# Altium schematic symbol library Integrated_Curcuits.SCHLIB: 65 symbols (part 3 of 3)
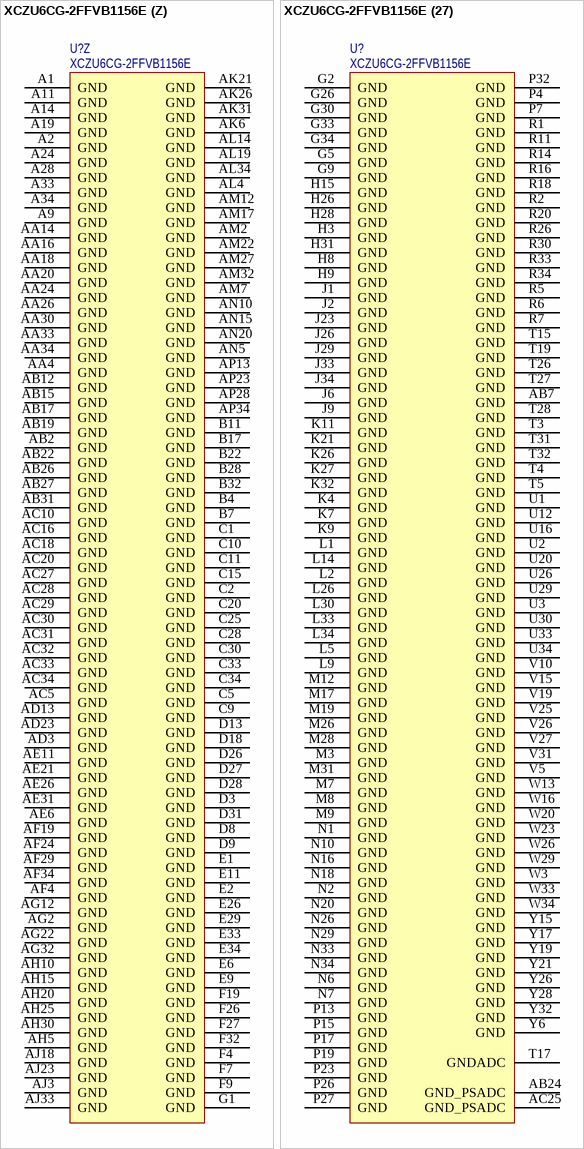
[diagram p14: symbol XCZU6CG-2FFVB1156E]

## XCZU6CG-2FFVB1156E
designator U?
Manufacturer: XILINX; Manufacturer Part Number: XCZU6CG-2FFVB1156E; Supplier 1: AVNET; Supplier Part Number 1: XCZU6CG-2FFVB1156E; ComponentLink1Description: Supplier Info; ComponentLink1URL: https://www.avnet.com/shop/emea/products/xilinx/xczu6cg-2ffvb1156e-3074457345632354611/; ComponentLink2Description: Datasheet; Value: XCZU6CG-2FFVB1156E
footprint XCZU6CG-2FFVB1156E (BGA, 1156-Leads, Body 35.00x35.00mmx3.42mm, Pitch 1.00mm)
part A pins: AD14 POR_OVERRIDE (in), AD15 PUDC_B (in), R21 PS_ERROR_STATUS (io), R22 PS_MODE1 (in), R23 PS_MODE3 (in), R24 PS_JTAG_TMS (in), R25 PS_JTAG_TCK (in), T21 PS_ERROR_OUT (out), T22 PS_MODE0 (in), T23 PS_MODE2 (in), T25 PS_JTAG_TDO (out), U17 VREFN (in), U18 VP (in), U21 PS_PROG_B (in), U23 PS_SRST_B (in), U24 PS_REF_CLK (in), U25 PS_JTAG_TDI (in), V17 VN (in), V18 VREFP (in), V21 PS_PADI (in), V22 PS_PADO (out), V23 PS_POR_B (in), V24 PS_INIT_B (io), W17 DXN, W18 DXP, W21 PS_DONE (out)
part B pins: AF20 PS_DDR_PARITY (io), AF21 PS_DDR_RAM_RST_N (out), AF22 PS_DDR_ALERT_N (out), AF23 PS_DDR_ZQ (in), AF25 PS_DDR_A17 (out), AG25 PS_DDR_ACT_N (out), AG26 PS_DDR_BA1 (out), AH26 PS_DDR_BA0 (out), AH27 PS_DDR_BG1 (out), AJ25 PS_DDR_A12 (out), AJ26 PS_DDR_ODT1 (out), AJ27 PS_DDR_CKE1 (out), AK24 PS_DDR_A15 (out), AK25 PS_DDR_A14 (out), AK27 PS_DDR_A11 (out), AK28 PS_DDR_BG0 (out), AL25 PS_DDR_A13 (out), AL26 PS_DDR_CK1 (out), AL27 PS_DDR_CK_N1 (out), AL28 PS_DDR_A10 (out), AL30 PS_DDR_CS_N1 (out), AM24 PS_DDR_A16 (out), AM25 PS_DDR_A9 (out), AM26 PS_DDR_A8 (out), AM28 PS_DDR_A7 (out), AM29 PS_DDR_A6 (out), AM30 PS_DDR_ODT0 (out), AN24 PS_DDR_A5 (out), AN26 PS_DDR_CK0 (out), AN27 PS_DDR_CK_N0 (out), AN28 PS_DDR_CS_N0 (out), AN29 PS_DDR_CKE0 (out), AP25 PS_DDR_A4 (out), AP26 PS_DDR_A2 (out), AP27 PS_DDR_A3 (out), AP29 PS_DDR_A0 (out), AP30 PS_DDR_A1 (out)
part C pins: AG18 PS_DDR_DQ23 (io), AG19 PS_DDR_DQ22 (io), AG20 PS_DDR_DQ20 (io), AG21 PS_DDR_DQ24 (io), AG23 PS_DDR_DQ27 (io), AG24 PS_DDR_DQ26 (io), AH18 PS_DDR_DQ21 (io), AH19 PS_DDR_DQS_P2 (io), AH21 PS_DDR_DQ25 (io), AH22 PS_DDR_DQS_P3 (io), AH23 PS_DDR_DQS_N3 (io), AH24 PS_DDR_DM3 (io), AJ19 PS_DDR_DQS_N2 (io), AJ20 PS_DDR_DQ18 (io), AJ21 PS_DDR_DQ29 (io), AJ22 PS_DDR_DQ30 (io), AK18 PS_DDR_DQ19 (io), AK19 PS_DDR_DM2 (io), AK20 PS_DDR_DQ17 (io), AK22 PS_DDR_DQ28 (io), AK23 PS_DDR_DQ31 (io), AL18 PS_DDR_DQ7 (io), AL20 PS_DDR_DQ16 (io), AL21 PS_DDR_DQ12 (io), AL22 PS_DDR_DQ13 (io), AL23 PS_DDR_DQ15 (io), AM18 PS_DDR_DQ6 (io), AM19 PS_DDR_DQ5 (io), AM20 PS_DDR_DQ4 (io), AM21 PS_DDR_DM1 (io), AM23 PS_DDR_DQ14 (io), AN17 PS_DDR_DM0 (io), AN18 PS_DDR_DQS_P0 (io), AN19 PS_DDR_DQS_N0 (io), AN21 PS_DDR_DQS_P1 (io), AN22 PS_DDR_DQS_N1 (io), AN23 PS_DDR_DQ11 (io), AP17 PS_DDR_DQ3 (io), AP18 PS_DDR_DQ1 (io), AP19 PS_DDR_DQ2 (io), AP20 PS_DDR_DQ0 (io), AP21 PS_DDR_DQ9 (io), AP22 PS_DDR_DQ8 (io), AP24 PS_DDR_DQ10 (io)
part D pins: AD27 PS_DDR_DQ45 (io), AD28 PS_DDR_DQ44 (io), AD29 PS_DDR_DQ46 (io), AD30 PS_DDR_DQ47 (io), AD31 PS_DDR_DQ60 (io), AD32 PS_DDR_DQ61 (io), AD33 PS_DDR_DQ63 (io), AD34 PS_DDR_DQ62 (io), AE27 PS_DDR_DQ40 (io), AE28 PS_DDR_DQS_P5 (io), AE29 PS_DDR_DQS_N5 (io), AE30 PS_DDR_DM5 (io), AE32 PS_DDR_DQS_P7 (io), AE33 PS_DDR_DQS_N7 (io), AE34 PS_DDR_DM7 (io), AF28 PS_DDR_DQ41 (io), AF30 PS_DDR_DQ42 (io), AF31 PS_DDR_DQ43 (io), AF32 PS_DDR_DQ58 (io), AF33 PS_DDR_DQ59 (io), AG28 PS_DDR_DQ35 (io), AG29 PS_DDR_DQ34 (io), AG30 PS_DDR_DQ33 (io), AG31 PS_DDR_DQ32 (io), AG33 PS_DDR_DQ56 (io), AG34 PS_DDR_DQ57 (io), AH28 PS_DDR_DQS_P4 (io), AH29 PS_DDR_DQS_N4 (io), AH31 PS_DDR_DM4 (io), AH32 PS_DDR_DQ51 (io), AH33 PS_DDR_DQ48 (io), AH34 PS_DDR_DQ50 (io), AJ29 PS_DDR_DQ39 (io), AJ30 PS_DDR_DQ36 (io), AJ31 PS_DDR_DM6 (io), AJ32 PS_DDR_DQS_P6 (io), AJ34 PS_DDR_DQ49 (io), AK29 PS_DDR_DQ37 (io), AK30 PS_DDR_DQ38 (io), AK32 PS_DDR_DQS_N6 (io), AK33 PS_DDR_DQ53 (io), AK34 PS_DDR_DQ52 (io), AL31 PS_DDR_DQ55 (io), AL32 PS_DDR_DQ54 (io)
part E pins: AL33 PS_DDR_DQ71 (io), AM31 PS_DDR_DQ68 (io), AM33 PS_DDR_DQ69 (io), AM34 PS_DDR_DQ70 (io), AN31 PS_DDR_DQ64 (io), AN32 PS_DDR_DQS_P8 (io), AN33 PS_DDR_DQS_N8 (io), AN34 PS_DDR_DM8 (io), AP31 PS_DDR_DQ65 (io), AP32 PS_DDR_DQ66 (io), AP33 PS_DDR_DQ67 (io)
part F pins: AD16 PS_MIO2 (io), AD17 PS_MIO7 (io), AD18 PS_MIO20 (io), AD19 PS_MIO23 (io), AD20 PS_MIO22 (io), AE17 PS_MIO8 (io), AE18 PS_MIO18 (io), AE19 PS_MIO25 (io), AE20 PS_MIO24 (io), AF16 PS_MIO0 (io), AF17 PS_MIO11 (io), AF18 PS_MIO21 (io), AG16 PS_MIO3 (io), AH16 PS_MIO4 (io), AH17 PS_MIO10 (io), AJ16 PS_MIO1 (io), AJ17 PS_MIO12 (io), AK17 PS_MIO13 (io), AL15 PS_MIO6 (io), AL16 PS_MIO14 (io), AL17 PS_MIO19 (io), AM15 PS_MIO5 (io), AM16 PS_MIO16 (io), AN16 PS_MIO15 (io), AP15 PS_MIO9 (io), AP16 PS_MIO17 (io)
part G pins: H22 PS_MIO32 (io), H23 PS_MIO33 (io), J22 PS_MIO31 (io), J24 PS_MIO41 (io), J25 PS_MIO46 (io), K22 PS_MIO29 (io), K23 PS_MIO36 (io), K24 PS_MIO43 (io), K25 PS_MIO49 (io), L21 PS_MIO30 (io), L22 PS_MIO34 (io), L23 PS_MIO38 (io), L25 PS_MIO47 (io), M21 PS_MIO27 (io), M23 PS_MIO40 (io), M24 PS_MIO42 (io), M25 PS_MIO48 (io), N21 PS_MIO28 (io), N22 PS_MIO37 (io), N23 PS_MIO39 (io), N24 PS_MIO44 (io), N25 PS_MIO51 (io), P21 PS_MIO26 (io), P22 PS_MIO35 (io), P24 PS_MIO45 (io), P25 PS_MIO50 (io)
part H pins: A23 PS_MIO57 (io), A25 PS_MIO64 (io), A26 PS_MIO65 (io), A27 PS_MIO66 (io), B23 PS_MIO55 (io), B24 PS_MIO59 (io), B25 PS_MIO67 (io), B26 PS_MIO68 (io), B27 PS_MIO69 (io), C23 PS_MIO56 (io), C24 PS_MIO61 (io), C26 PS_MIO70 (io), C27 PS_MIO71 (io), D24 PS_MIO63 (io), D25 PS_MIO75 (io), E23 PS_MIO53 (io), E24 PS_MIO60 (io), E25 PS_MIO72 (io), F22 PS_MIO52 (io), F23 PS_MIO54 (io), F25 PS_MIO77 (io), G23 PS_MIO58 (io), G24 PS_MIO62 (io), G25 PS_MIO74 (io), H24 PS_MIO73 (io), H25 PS_MIO76 (io)
part I pins: AE13 IO_L9P_AD3P_44 (io), AE14 IO_L12N_AD0N_44 (io), AE15 IO_L12P_AD0P_44 (io), AF13 IO_L9N_AD3N_44 (io), AF15 IO_L11P_AD1P_44 (io), AG13 IO_L10N_AD2N_44 (io), AG14 IO_L10P_AD2P_44 (io), AG15 IO_L11N_AD1N_44 (io), AH13 IO_L7N_HDGC_AD5N_44 (io), AH14 IO_L7P_HDGC_AD5P_44 (io), AJ14 IO_L8N_HDGC_AD4N_44 (io), AJ15 IO_L8P_HDGC_AD4P_44 (io), AK13 IO_L6P_HDGC_AD6P_44 (io), AK14 IO_L5N_HDGC_AD7N_44 (io), AK15 IO_L5P_HDGC_AD7P_44 (io), AL12 IO_L6N_HDGC_AD6N_44 (io), AL13 IO_L4P_AD8P_44 (io), AM13 IO_L4N_AD8N_44 (io), AM14 IO_L2P_AD10P_44 (io), AN12 IO_L3P_AD9P_44 (io), AN13 IO_L2N_AD10N_44 (io), AN14 IO_L1P_AD11P_44 (io), AP12 IO_L3N_AD9N_44 (io), AP14 IO_L1N_AD11N_44 (io)
part J pins: A20 IO_L12N_AD0N_47 (io), A21 IO_L11P_AD1P_47 (io), A22 IO_L11N_AD1N_47 (io), B20 IO_L12P_AD0P_47 (io), B21 IO_L10N_AD2N_47 (io), C21 IO_L10P_AD2P_47 (io), C22 IO_L9N_AD3N_47 (io), D20 IO_L8N_HDGC_AD4N_47 (io), D21 IO_L9P_AD3P_47 (io), D22 IO_L7N_HDGC_AD5N_47 (io), E20 IO_L8P_HDGC_AD4P_47 (io), E22 IO_L7P_HDGC_AD5P_47 (io), F20 IO_L6N_HDGC_AD6N_47 (io), F21 IO_L5N_HDGC_AD7N_47 (io), G20 IO_L6P_HDGC_AD6P_47 (io), G21 IO_L5P_HDGC_AD7P_47 (io), H21 IO_L3N_AD9N_47 (io), J19 IO_L4P_AD8P_47 (io), J20 IO_L4N_AD8N_47 (io), J21 IO_L3P_AD9P_47 (io), K19 IO_L2N_AD10N_47 (io), K20 IO_L1N_AD11N_47 (io), L19 IO_L2P_AD10P_47 (io), L20 IO_L1P_AD11P_47 (io)
part K pins: A17 IO_L12P_AD8P_48 (io), A18 IO_L12N_AD8N_48 (io), B18 IO_L10P_AD10P_48 (io), B19 IO_L10N_AD10N_48 (io), C17 IO_L9N_AD11N_48 (io), C18 IO_L11P_AD9P_48 (io), C19 IO_L11N_AD9N_48 (io), D17 IO_L9P_AD11P_48 (io), D19 IO_L7N_HDGC_48 (io), E17 IO_L8P_HDGC_48 (io), E18 IO_L8N_HDGC_48 (io), E19 IO_L7P_HDGC_48 (io), F17 IO_L6P_HDGC_48 (io), F18 IO_L6N_HDGC_48 (io), G18 IO_L5P_HDGC_48 (io), G19 IO_L5N_HDGC_48 (io), H17 IO_L2N_AD14N_48 (io), H18 IO_L1P_AD15P_48 (io), H19 IO_L1N_AD15N_48 (io), J17 IO_L2P_AD14P_48 (io), K17 IO_L4N_AD12N_48 (io), K18 IO_L3N_AD13N_48 (io), L17 IO_L4P_AD12P_48 (io), L18 IO_L3P_AD13P_48 (io)
part L pins: A12 IO_L9N_AD11N_49 (io), A13 IO_L9P_AD11P_49 (io), A15 IO_L4N_AD12N_49 (io), A16 IO_L3N_AD13N_49 (io), B12 IO_L10N_AD10N_49 (io), B13 IO_L8N_HDGC_49 (io), B14 IO_L7N_HDGC_49 (io), B15 IO_L4P_AD12P_49 (io), B16 IO_L3P_AD13P_49 (io), C12 IO_L10P_AD10P_49 (io), C13 IO_L8P_HDGC_49 (io), C14 IO_L7P_HDGC_49 (io), C16 IO_L2N_AD14N_49 (io), D12 IO_L11N_AD9N_49 (io), D14 IO_L6N_HDGC_49 (io), D15 IO_L5N_HDGC_49 (io), D16 IO_L2P_AD14P_49 (io), E12 IO_L11P_AD9P_49 (io), E13 IO_L12N_AD8N_49 (io), E14 IO_L6P_HDGC_49 (io), E15 IO_L5P_HDGC_49 (io), F13 IO_L12P_AD8P_49 (io), F15 IO_L1N_AD15N_49 (io), F16 IO_L1P_AD15P_49 (io)
part M pins: D10 IO_L4N_AD12N_50 (io), D11 IO_L4P_AD12P_50 (io), E10 IO_L3N_AD13N_50 (io), F10 IO_L3P_AD13P_50 (io), F11 IO_L6N_HDGC_50 (io), F12 IO_L6P_HDGC_50 (io), G10 IO_L2N_AD14N_50 (io), G11 IO_L5N_HDGC_50 (io), G13 IO_L8N_HDGC_50 (io), G14 IO_L9N_AD11N_50 (io), G15 IO_L9P_AD11P_50 (io), G16 IO_L11N_AD9N_50 (io), H10 IO_L2P_AD14P_50 (io), H11 IO_L5P_HDGC_50 (io), H12 IO_L7N_HDGC_50 (io), H13 IO_L8P_HDGC_50 (io), H14 IO_L10N_AD10N_50 (io), H16 IO_L11P_AD9P_50 (io), J10 IO_L1N_AD15N_50 (io), J11 IO_L1P_AD15P_50 (io), J12 IO_L7P_HDGC_50 (io), J14 IO_L10P_AD10P_50 (io), J15 IO_L12N_AD8N_50 (io), J16 IO_L12P_AD8P_50 (io)
part N pins: AJ7 IO_T1U_N12_64 (io), AJ9 IO_L9P_T1L_N4_AD12P_64 (io), AJ10 IO_L6P_T0U_N10_AD6P_64 (io), AJ11 VREF_64 (in), AJ12 IO_L1P_T0L_N0_DBC_64 (io), AK1 IO_L23P_T3U_N8_64 (io), AK2 IO_L24N_T3U_N11_64 (io), AK3 IO_L24P_T3U_N10_64 (io), AK4 IO_L18N_T2U_N11_AD2N_64 (io), AK5 IO_L18P_T2U_N10_AD2P_64 (io), AK7 IO_L11N_T1U_N9_GC_64 (io), AK8 IO_L11P_T1U_N8_GC_64 (io), AK9 IO_L9N_T1L_N5_AD12N_64 (io), AK10 IO_L6N_T0U_N11_AD6N_64 (io), AK12 IO_L1N_T0L_N1_DBC_64 (io), AL1 IO_L23N_T3U_N9_64 (io), AL2 IO_L22N_T3U_N7_DBC_AD0N_64 (io), AL3 IO_L22P_T3U_N6_DBC_AD0P_64 (io), AL5 IO_L13N_T2L_N1_GC_QBC_64 (io), AL6 IO_L13P_T2L_N0_GC_QBC_64 (io), AL7 IO_L12N_T1U_N11_GC_64 (io), AL8 IO_L12P_T1U_N10_GC_64 (io), AL10 IO_L3P_T0L_N4_AD15P_64 (io), AL11 IO_L2P_T0L_N2_64 (io), AM1 IO_L21P_T3L_N4_AD8P_64 (io), AM3 IO_T2U_N12_64 (io), AM4 IO_L17P_T2U_N8_AD10P_64 (io), AM5 IO_L14N_T2L_N3_GC_64 (io), AM6 IO_L14P_T2L_N2_GC_64 (io), AM8 IO_L8N_T1L_N3_AD5N_64 (io), AM9 IO_L8P_T1L_N2_AD5P_64 (io), AM10 IO_L3N_T0L_N5_AD15N_64 (io), AM11 IO_L2N_T0L_N3_64 (io), AN1 IO_L21N_T3L_N5_AD8N_64 (io), AN2 IO_L19P_T3L_N0_DBC_AD9P_64 (io), AN3 IO_L20P_T3L_N2_AD1P_64 (io), AN4 IO_L17N_T2U_N9_AD10N_64 (io), AN6 IO_L16P_T2U_N6_QBC_AD3P_64 (io), AN7 IO_L10P_T1U_N6_QBC_AD4P_64 (io), AN8 IO_L7P_T1L_N0_QBC_AD13P_64 (io), AN9 IO_L5P_T0U_N8_AD14P_64 (io), AN11 IO_T0U_N12_VRP_64 (io), AP1 IO_T3U_N12_64 (io), AP2 IO_L19N_T3L_N1_DBC_AD9N_64 (io), AP3 IO_L20N_T3L_N3_AD1N_64 (io), AP4 IO_L15N_T2L_N5_AD11N_64 (io), AP5 IO_L15P_T2L_N4_AD11P_64 (io), AP6 IO_L16N_T2U_N7_QBC_AD3N_64 (io), AP7 IO_L10N_T1U_N7_QBC_AD4N_64 (io), AP8 IO_L7N_T1L_N1_QBC_AD13N_64 (io), AP9 IO_L5N_T0U_N9_AD14N_64 (io), AP10 IO_L4N_T0U_N7_DBC_AD7N_64 (io), AP11 IO_L4P_T0U_N6_DBC_AD7P_64 (io)
part O pins: AD1 IO_L23N_T3U_N9_65 (io), AD2 IO_L23P_T3U_N8_I2C_SCLK_65 (io), AD4 IO_L18P_T2U_N10_AD2P_65 (io), AD5 IO_T2U_N12_65 (io), AD6 IO_L9N_T1L_N5_AD12N_65 (io), AD7 IO_L9P_T1L_N4_AD12P_65 (io), AD9 IO_T0U_N12_VRP_65 (io), AD10 IO_L6P_T0U_N10_AD6P_65 (io), AD11 VREF_65 (in), AE1 IO_L24N_T3U_N11_PERSTN0_65 (io), AE2 IO_L24P_T3U_N10_PERSTN1_I2C_SDA_65 (io), AE3 IO_L17P_T2U_N8_AD10P_65 (io), AE4 IO_L18N_T2U_N11_AD2N_65 (io), AE5 IO_L13P_T2L_N0_GC_QBC_65 (io), AE7 IO_L12P_T1U_N10_GC_65 (io), AE8 IO_L10P_T1U_N6_QBC_AD4P_65 (io), AE9 IO_L6N_T0U_N11_AD6N_65 (io), AE10 IO_L1P_T0L_N0_DBC_65 (io), AE12 IO_L3P_T0L_N4_AD15P_65 (io), AF1 IO_L21N_T3L_N5_AD8N_65 (io), AF2 IO_L21P_T3L_N4_AD8P_65 (io), AF3 IO_L17N_T2U_N9_AD10N_65 (io), AF5 IO_L13N_T2L_N1_GC_QBC_65 (io), AF6 IO_L11P_T1U_N8_GC_65 (io), AF7 IO_L12N_T1U_N11_GC_65 (io), AF8 IO_L10N_T1U_N7_QBC_AD4N_65 (io), AF10 IO_L1N_T0L_N1_DBC_65 (io), AF11 IO_L4P_T0U_N6_DBC_AD7P_SMBALERT_65 (io), AF12 IO_L3N_T0L_N5_AD15N_65 (io), AG1 IO_T3U_N12_65 (io), AG3 IO_L20P_T3L_N2_AD1P_65 (io), AG4 IO_L14N_T2L_N3_GC_65 (io), AG5 IO_L14P_T2L_N2_GC_65 (io), AG6 IO_L11N_T1U_N9_GC_65 (io), AG8 IO_L8P_T1L_N2_AD5P_65 (io), AG9 IO_L5N_T0U_N9_AD14N_65 (io), AG10 IO_L5P_T0U_N8_AD14P_65 (io), AG11 IO_L4N_T0U_N7_DBC_AD7N_65 (io), AH1 IO_L22P_T3U_N6_DBC_AD0P_65 (io), AH2 IO_L19P_T3L_N0_DBC_AD9P_65 (io), AH3 IO_L20N_T3L_N3_AD1N_65 (io), AH4 IO_L15P_T2L_N4_AD11P_65 (io), AH6 IO_L7N_T1L_N1_QBC_AD13N_65 (io), AH7 IO_L7P_T1L_N0_QBC_AD13P_65 (io), AH8 IO_L8N_T1L_N3_AD5N_65 (io), AH9 IO_T1U_N12_65 (io), AH11 IO_L2N_T0L_N3_65 (io), AH12 IO_L2P_T0L_N2_65 (io), AJ1 IO_L22N_T3U_N7_DBC_AD0N_65 (io), AJ2 IO_L19N_T3L_N1_DBC_AD9N_65 (io), AJ4 IO_L15N_T2L_N5_AD11N_65 (io), AJ5 IO_L16N_T2U_N7_QBC_AD3N_65 (io), AJ6 IO_L16P_T2U_N6_QBC_AD3P_65 (io)
part P pins: AA1 IO_L21N_T3L_N5_AD8N_66 (io), AA2 IO_L21P_T3L_N4_AD8P_66 (io), AA3 IO_T2U_N12_66 (io), AA5 IO_L14N_T2L_N3_GC_66 (io), AA6 IO_L12N_T1U_N11_GC_66 (io), AA7 IO_L12P_T1U_N10_GC_66 (io), AA8 IO_T1U_N12_66 (io), AA10 IO_L3N_T0L_N5_AD15N_66 (io), AA11 IO_L3P_T0L_N4_AD15P_66 (io), AA12 IO_L5N_T0U_N9_AD14N_66 (io), AB1 IO_T3U_N12_66 (io), AB3 IO_L20P_T3L_N2_AD1P_66 (io), AB4 IO_L16P_T2U_N6_QBC_AD3P_66 (io), AB5 IO_L10N_T1U_N7_QBC_AD4N_66 (io), AB6 IO_L10P_T1U_N6_QBC_AD4P_66 (io), AB8 IO_L8P_T1L_N2_AD5P_66 (io), AB9 IO_L4P_T0U_N6_DBC_AD7P_66 (io), AB10 IO_L2N_T0L_N3_66 (io), AB11 IO_L2P_T0L_N2_66 (io), AC1 IO_L19N_T3L_N1_DBC_AD9N_66 (io), AC2 IO_L19P_T3L_N0_DBC_AD9P_66 (io), AC3 IO_L20N_T3L_N3_AD1N_66 (io), AC4 IO_L16N_T2U_N7_QBC_AD3N_66 (io), AC6 IO_L7N_T1L_N1_QBC_AD13N_66 (io), AC7 IO_L7P_T1L_N0_QBC_AD13P_66 (io), AC8 IO_L8N_T1L_N3_AD5N_66 (io), AC9 IO_L4N_T0U_N7_DBC_AD7N_66 (io), AC11 IO_L1N_T0L_N1_DBC_66 (io), AC12 IO_L1P_T0L_N0_DBC_66 (io), AD12 VREF_66 (in), U4 IO_L18N_T2U_N11_AD2N_66 (io), U5 IO_L18P_T2U_N10_AD2P_66 (io), V1 IO_L23N_T3U_N9_66 (io), V2 IO_L23P_T3U_N8_66 (io), V3 IO_L17N_T2U_N9_AD10N_66 (io), V4 IO_L17P_T2U_N8_AD10P_66 (io), W1 IO_L24N_T3U_N11_66 (io), W2 IO_L24P_T3U_N10_66 (io), W4 IO_L15N_T2L_N5_AD11N_66 (io), W5 IO_L15P_T2L_N4_AD11P_66 (io), W6 IO_L9N_T1L_N5_AD12N_66 (io), W7 IO_L9P_T1L_N4_AD12P_66 (io), W9 IO_T0U_N12_VRP_66 (io), Y1 IO_L22N_T3U_N7_DBC_AD0N_66 (io), Y2 IO_L22P_T3U_N6_DBC_AD0P_66 (io), Y3 IO_L13N_T2L_N1_GC_QBC_66 (io), Y4 IO_L13P_T2L_N0_GC_QBC_66 (io), Y5 IO_L14P_T2L_N2_GC_66 (io), Y7 IO_L11N_T1U_N9_GC_66 (io), Y8 IO_L11P_T1U_N8_GC_66 (io), Y9 IO_L6N_T0U_N11_AD6N_66 (io), Y10 IO_L6P_T0U_N10_AD6P_66 (io), Y12 IO_L5P_T0U_N8_AD14P_66 (io)
part Q pins: K10 IO_T2U_N12_67 (io), K12 IO_L18N_T2U_N11_AD2N_67 (io), K13 IO_L23N_T3U_N9_67 (io), K14 IO_T3U_N12_67 (io), K15 IO_L24N_T3U_N11_67 (io), K16 IO_L19N_T3L_N1_DBC_AD9N_67 (io), L10 IO_L15N_T2L_N5_AD11N_67 (io), L11 IO_L17N_T2U_N9_AD10N_67 (io), L12 IO_L18P_T2U_N10_AD2P_67 (io), L13 IO_L23P_T3U_N8_67 (io), L15 IO_L24P_T3U_N10_67 (io), L16 IO_L19P_T3L_N0_DBC_AD9P_67 (io), M10 IO_L15P_T2L_N4_AD11P_67 (io), M11 IO_L17P_T2U_N8_AD10P_67 (io), M13 IO_L22N_T3U_N7_DBC_AD0N_67 (io), M14 IO_L20N_T3L_N3_AD1N_67 (io), M15 IO_L20P_T3L_N2_AD1P_67 (io), N8 IO_L16N_T2U_N7_QBC_AD3N_67 (io), N9 IO_L16P_T2U_N6_QBC_AD3P_67 (io), N11 IO_L13N_T2L_N1_GC_QBC_67 (io), N12 IO_L21N_T3L_N5_AD8N_67 (io), N13 IO_L22P_T3U_N6_DBC_AD0P_67 (io), N14 VREF_67 (in), P9 IO_L14N_T2L_N3_GC_67 (io), P10 IO_L14P_T2L_N2_GC_67 (io), P11 IO_L13P_T2L_N0_GC_QBC_67 (io), P12 IO_L21P_T3L_N4_AD8P_67 (io), R8 IO_L12N_T1U_N11_GC_67 (io), R9 IO_L11N_T1U_N9_GC_67 (io), R10 IO_L11P_T1U_N8_GC_67 (io), R12 IO_L4N_T0U_N7_DBC_AD7N_67 (io), R13 IO_L2N_T0L_N3_67 (io), T6 IO_L10N_T1U_N7_QBC_AD4N_67 (io), T7 IO_L10P_T1U_N6_QBC_AD4P_67 (io), T8 IO_L12P_T1U_N10_GC_67 (io), T10 IO_L3N_T0L_N5_AD15N_67 (io), T11 IO_L6N_T0U_N11_AD6N_67 (io), T12 IO_L4P_T0U_N6_DBC_AD7P_67 (io), T13 IO_L2P_T0L_N2_67 (io), U6 IO_L8N_T1L_N3_AD5N_67 (io), U8 IO_L9N_T1L_N5_AD12N_67 (io), U9 IO_L9P_T1L_N4_AD12P_67 (io), U10 IO_L3P_T0L_N4_AD15P_67 (io), U11 IO_L6P_T0U_N10_AD6P_67 (io), V6 IO_L8P_T1L_N2_AD5P_67 (io), V7 IO_L7N_T1L_N1_QBC_AD13N_67 (io), V8 IO_L7P_T1L_N0_QBC_AD13P_67 (io), V9 IO_T1U_N12_67 (io), V11 IO_L5N_T0U_N9_AD14N_67 (io), V12 IO_L5P_T0U_N8_AD14P_67 (io), W10 IO_T0U_N12_VRP_67 (io), W11 IO_L1N_T0L_N1_DBC_67 (io), W12 IO_L1P_T0L_N0_DBC_67 (io)
part R pins: F33 MGTHRXP3_129 (out), F34 MGTHRXN3_129 (out), G31 MGTHTXP3_129 (out), G32 MGTHTXN3_129 (out), H29 MGTHTXP2_129 (out), H30 MGTHTXN2_129 (out), H33 MGTHRXP2_129 (out), H34 MGTHRXN2_129 (out), J27 MGTREFCLK1P_129 (in), J28 MGTREFCLK1N_129 (in), J31 MGTHTXP1_129 (out), J32 MGTHTXN1_129 (out), K29 MGTHTXP0_129 (out), K30 MGTHTXN0_129 (out), K33 MGTHRXP1_129 (out), K34 MGTHRXN1_129 (out), L27 MGTREFCLK0P_129 (in), L28 MGTREFCLK0N_129 (in), L31 MGTHRXP0_129 (out), L32 MGTHRXN0_129 (out), M29 MGTHTXP3_128 (in), M30 MGTHTXN3_128 (in), M33 MGTHRXP3_128 (in), M34 MGTHRXN3_128 (in), N27 MGTREFCLK1P_128 (in), N28 MGTREFCLK1N_128 (in), N31 MGTHRXP2_128 (in), N32 MGTHRXN2_128 (in), P29 MGTHTXP2_128 (in), P30 MGTHTXN2_128 (in), P33 MGTHRXP1_128 (in), P34 MGTHRXN1_128 (in), R27 MGTREFCLK0P_128 (in), R28 MGTREFCLK0N_128 (in), R31 MGTHTXP1_128 (in), R32 MGTHTXN1_128 (in), T29 MGTHTXP0_128 (in), T30 MGTHTXN0_128 (in), T33 MGTHRXP0_128 (in), T34 MGTHRXN0_128 (in)
part S pins: A31 MGTHTXP3_130 (out), A32 MGTHTXN3_130 (out), B29 MGTHTXP2_130 (out), B30 MGTHTXN2_130 (out), B33 MGTHRXP3_130 (in), B34 MGTHRXN3_130 (in), C31 MGTHRXP2_130 (in), C32 MGTHRXN2_130 (in), D29 MGTHTXP1_130 (out), D30 MGTHTXN1_130 (out), D33 MGTHRXP1_130 (in), D34 MGTHRXN1_130 (in), E27 MGTREFCLK1P_130 (in), E28 MGTREFCLK1N_130 (in), E31 MGTHRXP0_130 (in), E32 MGTHRXN0_130 (in), F29 MGTHTXP0_130 (out), F30 MGTHTXN0_130 (out), G27 MGTREFCLK0P_130 (in), G28 MGTREFCLK0N_130 (in), J7 MGTREFCLK1N_228 (in), J8 MGTREFCLK1P_228 (in), L3 MGTHRXN3_228 (in), L4 MGTHRXP3_228 (in), L7 MGTREFCLK0N_228 (in), L8 MGTREFCLK0P_228 (in), M1 MGTHRXN2_228 (in), M2 MGTHRXP2_228 (in), M5 MGTHTXN3_228 (out), M6 MGTHTXP3_228 (out), N3 MGTHTXN2_228 (out), N4 MGTHTXP2_228 (out), P1 MGTHRXN1_228 (in), P2 MGTHRXP1_228 (in), P5 MGTHTXN1_228 (out), P6 MGTHTXP1_228 (out), R3 MGTHTXN0_228 (out), R4 MGTHTXP0_228 (out), T1 MGTHRXN0_228 (in), T2 MGTHRXP0_228 (in)
part T pins: A3 MGTHRXN3_230 (in), A4 MGTHRXP3_230 (in), A7 MGTHTXN3_230 (out), A8 MGTHTXP3_230 (out), B1 MGTHRXN2_230 (in), B2 MGTHRXP2_230 (in), B5 MGTHTXN2_230 (out), B6 MGTHTXP2_230 (out), B9 MGTREFCLK1N_230 (in), B10 MGTREFCLK1P_230 (in), C3 MGTHRXN1_230 (in), C4 MGTHRXP1_230 (in), C7 MGTREFCLK0N_230 (in), C8 MGTREFCLK0P_230 (in), D1 MGTHRXN0_230 (in), D2 MGTHRXP0_230 (in), D5 MGTHTXN1_230 (out), D6 MGTHTXP1_230 (out), E3 MGTHTXN0_230 (in), E4 MGTHTXP0_230 (out), E7 MGTREFCLK1N_229 (in), E8 MGTREFCLK1P_229 (in), F1 MGTHRXN3_229 (in), F2 MGTHRXP3_229 (in), F5 MGTHTXN3_229 (out), F6 MGTHTXP3_229 (out), G3 MGTHTXN2_229 (out), G4 MGTHTXP2_229 (out), G7 MGTREFCLK0N_229 (in), G8 MGTREFCLK0P_229 (in), H1 MGTHRXN2_229 (in), H2 MGTHRXP2_229 (in), H5 MGTHTXN1_229 (out), H6 MGTHTXP1_229 (out), J3 MGTHRXN1_229 (in), J4 MGTHRXP1_229 (in), K1 MGTHRXN0_229 (in), K2 MGTHRXP0_229 (in), K5 MGTHTXN0_229 (out), K6 MGTHTXP0_229 (out)
part U pins: AA27 PS_MGTREFCLK0P_505 (in), AA28 PS_MGTREFCLK0N_505 (in), AA31 PS_MGTRRXP1_505 (in), AA32 PS_MGTRRXN1_505 (in), AB29 PS_MGTRTXP0_505 (out), AB30 PS_MGTRTXN0_505 (out), AB33 PS_MGTRRXP0_505 (in), AB34 PS_MGTRRXN0_505 (in), U27 PS_MGTREFCLK2P_505 (in), U28 PS_MGTREFCLK2N_505 (in), U31 PS_MGTREFCLK3P_505 (in), U32 PS_MGTREFCLK3N_505 (in), V29 PS_MGTRTXP3_505 (out), V30 PS_MGTRTXN3_505 (out), V33 PS_MGTRRXP3_505 (in), V34 PS_MGTRRXN3_505 (in), W27 PS_MGTREFCLK1P_505 (in), W28 PS_MGTREFCLK1N_505 (in), W31 PS_MGTRTXP2_505 (out), W32 PS_MGTRTXN2_505 (out), Y29 PS_MGTRTXP1_505 (out), Y30 PS_MGTRTXN1_505 (out), Y33 PS_MGTRRXP2_505 (in), Y34 PS_MGTRRXN2_505 (in)
part V pins: AA21 VCC_PSINTLP (power), AA22 VCC_PSBATT (power), AA23 VCC_PSAUX (power), AA25 VCC_PSAUX (power), AB21 VCC_PSINTLP (power), AB23 VCC_PSINTLP (power), AB25 VCC_PSADC (power), AC21 VCC_PSINTLP (power), AC22 VCC_PSINTLP (power), AC23 VCC_PSINTLP (power), AC24 VCC_PSINTFP (power), AC26 VCC_PSADC (power), AD21 VCC_PSINTFP (power), AD22 VCC_PSINTFP (power), AD24 VCC_PSINTFP_DDR (power), AD25 VCC_PSINTFP (power), AD26 VCC_PSINTFP (power), AE16 VCCO_PSIO0_500 (power), AE22 VCC_PSINTFP (power), AE23 VCC_PSINTFP (power), AE24 VCC_PSINTFP_DDR (power), AE25 VCC_PSINTFP_DDR (power), AG17 VCCO_PSIO0_500 (power), AG27 VCCO_PSDDR_504 (power), AJ24 VCCO_PSDDR_504 (power), AJ28 VCCO_PSDDR_504 (power), AK16 VCCO_PSIO0_500 (power), AL24 VCCO_PSDDR_504 (power), AL29 VCCO_PSDDR_504 (power), AN25 VCCO_PSDDR_504 (power), AN30 VCCO_PSDDR_504 (power), D23 VCCO_PSIO2_502 (power), F24 VCCO_PSIO2_502 (power), G22 VCCO_PSIO2_502 (power), L24 VCCO_PSIO1_501 (power), M22 VCCO_PSIO1_501 (power), T24 VCCO_PSIO3_503 (power), U22 VCCO_PSIO3_503 (power), W22 VCC_PSPLL (power), W24 VCC_PSPLL (power), W25 VCC_PSPLL (power), Y22 VCC_PSAUX (power), Y23 VCC_PSAUX (power), Y24 VCC_PSDDR_PLL (power), Y25 VCC_PSDDR_PLL (power)
part W pins: AA9 VCCO_66 (power), AB14 VCCBRAM (power), AC14 VCCBRAM (power), AD8 VCCO_65 (power), AF9 VCCO_65 (power), AF14 VCCO_44 (power), AG7 VCCO_65 (power), AJ8 VCCO_64 (power), AJ13 VCCO_44 (power), AK11 VCCO_64 (power), AL9 VCCO_64 (power), E16 VCCO_49 (power), E21 VCCO_47 (power), F14 VCCO_49 (power), G12 VCCO_50 (power), G17 VCCO_48 (power), H20 VCCO_47 (power), J13 VCCO_50 (power), J18 VCCO_48 (power), P8 VCCO_67 (power), T9 VCCO_67 (power), T14 VCCAUX (power), T18 VCCADC (power), U7 VCCO_67 (power), U13 VCCAUX_IO (power), U14 VCCAUX (power), V13 VCCAUX_IO (power), V14 VCCAUX_IO (power), W8 VCCO_66 (power), W14 VCCBRAM (power), Y11 VCCO_66 (power), Y14 VCCBRAM (power)
part X pins: A5 MGTAVTTRCAL_R (in), A6 MGTRREF_R (in), A29 MGTRREF_L (in), A30 MGTAVTTRCAL_L (in), AA13 VCCINT_IO (power), AA15 VCCINT (power), AA17 VCCINT (power), AA19 VCCINT (power), AB13 VCCINT_IO (power), AB16 VCCINT (power), AB18 VCCINT (power), AB20 VCCINT (power), AB28 PS_MGTRREF_505 (in), AC13 VCCINT_IO (power), AC15 VCCINT (power), AC17 VCCINT (power), AC19 VCCINT (power), AF26 NC, AF27 NC, M16 VCCINT (power), M18 VCCINT (power), M20 VCCINT (power), N15 VCCINT (power), N17 VCCINT (power), N19 VCCINT (power), P14 VCCINT (power), P16 VCCINT (power), P18 VCCINT (power), P20 VCCINT (power), R15 VCCINT (power), R17 VCCINT (power), R19 VCCINT (power), T16 VCCINT (power), T20 VCCINT (power), U15 VCCINT (power), U19 VCCINT (power), V16 VCCINT (power), V20 VCCINT (power), W15 VCCINT (power), W19 VCCINT (power), Y13 VCCINT_IO (power), Y16 VCCINT (power), Y18 VCCINT (power), Y20 VCCINT (power)
part Y pins: A10 MGTAVCC_R (power), AA29 PS_MGTRAVCC (power), AB32 PS_MGTRAVTT (power), B3 MGTAVTT_R (power), B8 MGTAVCC_R (power), B31 MGTAVTT_L (power), C6 MGTAVCC_R (power), C29 MGTAVTT_L (power), D4 MGTAVTT_R (power), D7 MGTAVCC_R (power), D32 MGTAVTT_L (power), E5 MGTAVCC_R (power), E30 MGTAVTT_L (power), F3 MGTAVTT_R (power), F8 MGTVCCAUX_R (power), F28 MGTAVCC_L (power), F31 MGTAVTT_L (power), G6 MGTAVCC_R (power), G29 MGTAVCC_L (power), H4 MGTAVTT_R (power), H7 MGTVCCAUX_R (power), H27 MGTAVCC_L (power), H32 MGTAVTT_L (power), J5 MGTAVTT_R (power), J30 MGTAVTT_L (power), K3 MGTAVTT_R (power), K8 MGTAVCC_R (power), K28 MGTVCCAUX_L (power), K31 MGTAVTT_L (power), L6 MGTAVTT_R (power), L29 MGTAVCC_L (power), M4 MGTAVTT_R (power), M27 MGTVCCAUX_L (power), M32 MGTAVTT_L (power), N5 MGTAVTT_R (power), N30 MGTAVTT_L (power), P3 MGTAVTT_R (power), P28 MGTAVCC_L (power), P31 MGTAVTT_L (power), R29 MGTAVCC_L (power), V28 PS_MGTRAVCC (power), V32 PS_MGTRAVTT (power), W30 PS_MGTRAVCC (power), Y27 PS_MGTRAVCC (power), Y31 PS_MGTRAVTT (power)
part Z pins: A1 GND (power), A2 GND (power), A9 GND (power), A11 GND (power), A14 GND (power), A19 GND (power), A24 GND (power), A28 GND (power), A33 GND (power), A34 GND (power), AA4 GND (power), AA14 GND (power), AA16 GND (power), AA18 GND (power), AA20 GND (power), AA24 GND (power), AA26 GND (power), AA30 GND (power), AA33 GND (power), AA34 GND (power), AB2 GND (power), AB12 GND (power), AB15 GND (power), AB17 GND (power), AB19 GND (power), AB22 GND (power), AB26 GND (power), AB27 GND (power), AB31 GND (power), AC5 GND (power), AC10 GND (power), AC16 GND (power), AC18 GND (power), AC20 GND (power), AC27 GND (power), AC28 GND (power), AC29 GND (power), AC30 GND (power), AC31 GND (power), AC32 GND (power), AC33 GND (power), AC34 GND (power), AD3 GND (power), AD13 GND (power), AD23 GND (power), AE6 GND (power), AE11 GND (power), AE21 GND (power), AE26 GND (power), AE31 GND (power), AF4 GND (power), AF19 GND (power), AF24 GND (power), AF29 GND (power), AF34 GND (power), AG2 GND (power), AG12 GND (power), AG22 GND (power), AG32 GND (power), AH5 GND (power), AH10 GND (power), AH15 GND (power), AH20 GND (power), AH25 GND (power), AH30 GND (power), AJ3 GND (power), AJ18 GND (power), AJ23 GND (power), AJ33 GND (power), AK6 GND (power), AK21 GND (power), AK26 GND (power), AK31 GND (power), AL4 GND (power), AL14 GND (power), AL19 GND (power), AL34 GND (power), AM2 GND (power), AM7 GND (power), AM12 GND (power), AM17 GND (power), AM22 GND (power), AM27 GND (power), AM32 GND (power), AN5 GND (power), AN10 GND (power), AN15 GND (power), AN20 GND (power), AP13 GND (power), AP23 GND (power), AP28 GND (power), AP34 GND (power), B4 GND (power), B7 GND (power), B11 GND (power), B17 GND (power), B22 GND (power), B28 GND (power), B32 GND (power), C1 GND (power), C2 GND (power), C5 GND (power), C9 GND (power), C10 GND (power), C11 GND (power), C15 GND (power), C20 GND (power), C25 GND (power), C28 GND (power), C30 GND (power), C33 GND (power), C34 GND (power), D3 GND (power), D8 GND (power), D9 GND (power), D13 GND (power), D18 GND (power), D26 GND (power), D27 GND (power), D28 GND (power), D31 GND (power), E1 GND (power), E2 GND (power), E6 GND (power), E9 GND (power), E11 GND (power), E26 GND (power), E29 GND (power), E33 GND (power), E34 GND (power), F4 GND (power), F7 GND (power), F9 GND (power), F19 GND (power), F26 GND (power), F27 GND (power), F32 GND (power), G1 GND (power)
part 27 pins: AB7 GND (power), AB24 GND_PSADC (power), AC25 GND_PSADC (power), G2 GND (power), G5 GND (power), G9 GND (power), G26 GND (power), G30 GND (power), G33 GND (power), G34 GND (power), H3 GND (power), H8 GND (power), H9 GND (power), H15 GND (power), H26 GND (power), H28 GND (power), H31 GND (power), J1 GND (power), J2 GND (power), J6 GND (power), J9 GND (power), J23 GND (power), J26 GND (power), J29 GND (power), J33 GND (power), J34 GND (power), K4 GND (power), K7 GND (power), K9 GND (power), K11 GND (power), K21 GND (power), K26 GND (power), K27 GND (power), K32 GND (power), L1 GND (power), L2 GND (power), L5 GND (power), L9 GND (power), L14 GND (power), L26 GND (power), L30 GND (power), L33 GND (power), L34 GND (power), M3 GND (power), M7 GND (power), M8 GND (power), M9 GND (power), M12 GND (power), M17 GND (power), M19 GND (power), M26 GND (power), M28 GND (power), M31 GND (power), N1 GND (power), N2 GND (power), N6 GND (power), N7 GND (power), N10 GND (power), N16 GND (power), N18 GND (power), N20 GND (power), N26 GND (power), N29 GND (power), N33 GND (power), N34 GND (power), P4 GND (power), P7 GND (power), P13 GND (power), P15 GND (power), P17 GND (power), P19 GND (power), P23 GND (power), P26 GND (power), P27 GND (power), P32 GND (power), R1 GND (power), R2 GND (power), R5 GND (power), R6 GND (power), R7 GND (power), R11 GND (power), R14 GND (power), R16 GND (power), R18 GND (power), R20 GND (power), R26 GND (power), R30 GND (power), R33 GND (power), R34 GND (power), T3 GND (power), T4 GND (power), T5 GND (power), T15 GND (power), T17 GNDADC (power), T19 GND (power), T26 GND (power), T27 GND (power), T28 GND (power), T31 GND (power), T32 GND (power), U1 GND (power), U2 GND (power), U3 GND (power), U12 GND (power), U16 GND (power), U20 GND (power), U26 GND (power), U29 GND (power), U30 GND (power), U33 GND (power), U34 GND (power), V5 GND (power), V10 GND (power), V15 GND (power), V19 GND (power), V25 GND (power), V26 GND (power), V27 GND (power), V31 GND (power), W3 GND (power), W13 GND (power), W16 GND (power), W20 GND (power), W23 GND (power), W26 GND (power), W29 GND (power), W33 GND (power), W34 GND (power), Y6 GND (power), Y15 GND (power), Y17 GND (power), Y19 GND (power), Y21 GND (power), Y26 GND (power), Y28 GND (power), Y32 GND (power)